# EAGLE library part MC3303PG (library On Semiconductor)
Operational Amplifiers
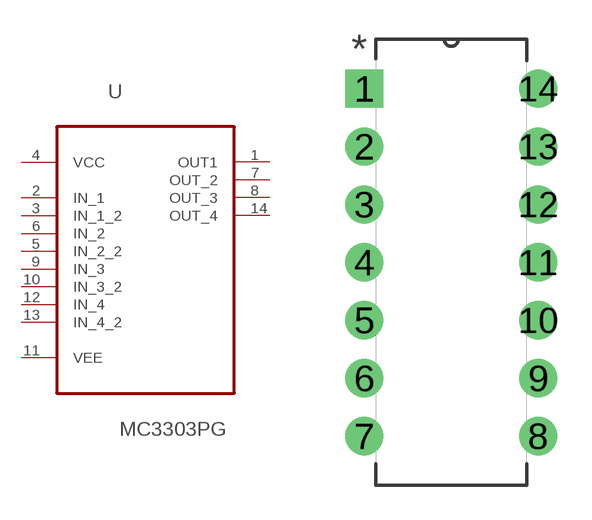
[diagram p321: symbol with the pads of DIP254P762X469-14; footprint DIP254P762X469-14]

Designator prefix U

## MC3303PG (MPN: MC3303PG; OC_FARNELL: 1426358; OC_NEWARK: 26K3986; PACKAGE: PDIP-14; SUPPLIER: On Semiconductor)  [DIP254P762X469-14]
1  OUT1  out
2  IN_1  in
3  IN_1_2  in
4  VCC  pwr
5  IN_2_2  in
6  IN_2  in
7  OUT_2  out
8  OUT_3  out
9  IN_3  in
10  IN_3_2  in
11  VEE  pwr
12  IN_4  in
13  IN_4_2  in
14  OUT_4  out

## Footprint DIP254P762X469-14 (pad centres in mm)
drill 1.118 square: 1 -7.62,15.24
drill 1.118: 2 -7.62,12.7; 3 -7.62,10.16; 4 -7.62,7.62; 5 -7.62,5.08; 6 -7.62,2.54; 7 -7.62,0; 8 0,0; 9 0,2.54; 10 0,5.08; 11 0,7.62; 12 0,10.16; 13 0,12.7; 14 0,15.24